# EAGLE library part 146134-12 (library con-tyco-mod-II)
HEADER
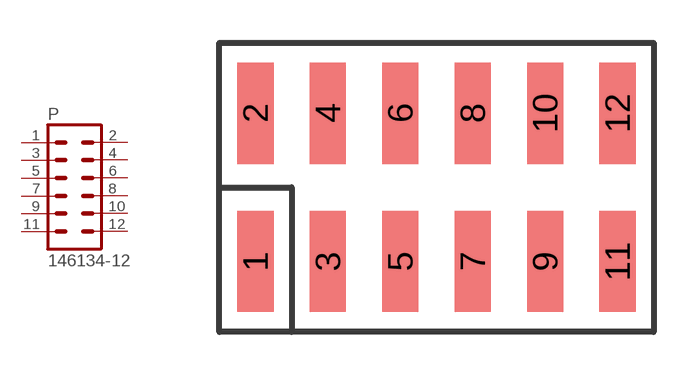
[diagram p3: symbol with the pads of 146134-12; footprint 146134-12]

Designator prefix P

## 146134-12  [146134-12]
1  1  pas
2  2  pas
3  3  pas
4  4  pas
5  5  pas
6  6  pas
7  7  pas
8  8  pas
9  9  pas
10  10  pas
11  11  pas
12  12  pas

## Footprint 146134-12 (pad centres in mm)
HEADER
smd 1.27 x 3.556: 1 -6.35,-2.603; 2 -6.35,2.603; 3 -3.81,-2.603; 4 -3.81,2.603; 5 -1.27,-2.603; 6 -1.27,2.603; 7 1.27,-2.603; 8 1.27,2.603; 9 3.81,-2.603; 10 3.81,2.603; 11 6.35,-2.603; 12 6.35,2.603